# EAGLE library part LT1990 (library microLib)
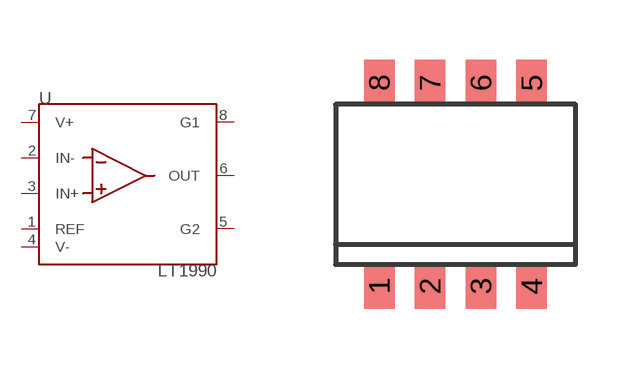
[diagram p18: symbol with the pads of S8; footprint S8]

Designator prefix -

## LT1990  [S8]
1  REF
2  IN-
3  IN+
4  V-
5  G2
6  OUT
7  V+
8  G1

## Footprint S8 (pad centres in mm)
smd 0.762 x 1.143: 1 -1.905,-2.54; 2 -0.635,-2.54; 3 0.635,-2.54; 4 1.905,-2.54; 5 1.905,2.54; 6 0.635,2.54; 7 -0.635,2.54; 8 -1.905,2.54